# EAGLE library part 10-PIN-CONNECTOR (library sensor-breakout-boards)
10-Pin, 0.1", Male Header Harwin Inc. Part Number: M20-9961045 Digi-key Part Number: 952-2250-ND
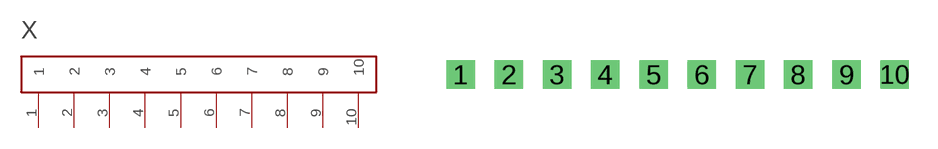
[diagram p0: symbol with the pads of 10-PIN-HEADER; footprint 10-PIN-HEADER]

Designator prefix X

## 10-PIN-CONNECTOR  [10-PIN-HEADER]
1  1
2  2
3  3
4  4
5  5
6  6
7  7
8  8
9  9
10  10

## Footprint 10-PIN-HEADER (pad centres in mm)
drill 1 square: 1 -11.43,0; 2 -8.89,0; 3 -6.35,0; 4 -3.81,0; 5 -1.27,0; 6 1.27,0; 7 3.81,0; 8 6.35,0; 9 8.89,0; 10 11.43,0